# Altium schematic symbol library Schlib1.SchLib: 1 symbol
Pins are listed as number, name and electrical type; pins without a type are passive.

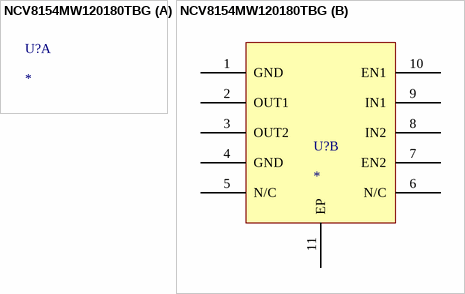
[diagram p0: symbol NCV8154MW120180TBG]

## NCV8154MW120180TBG
designator U?
footprint SON50P300X300X100-11N
part B pins: 1 GND, 2 OUT1, 3 OUT2, 4 GND, 5 N/C, 6 N/C, 7 EN2, 8 IN2, 9 IN1, 10 EN1, 11 EP